# Altium schematic symbol library 74HC4067.SchLib: 1 symbol
Pins are listed as number, name and electrical type; pins without a type are passive.

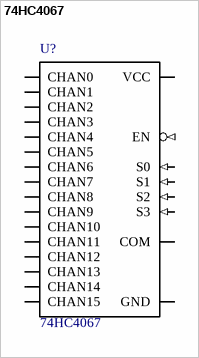
[diagram p0: symbol 74HC4067]

## 74HC4067
designator U?
/ Analog Switch/Analog Multiplexer Single 16:1 24-Pin SSOP T/R /; MF: Nexperia; Package: None; Price: None; SnapEDA_Link: https://www.snapeda.com/parts/74HC4067/Nexperia/view-part/?ref=snap; MP: 74HC4067; Availability: Not in stock; Check_prices: https://www.snapeda.com/parts/74HC4067/Nexperia/view-part/?ref=eda; Value: *
footprint *SOIC-24_74HC4067(Primary)
pins: P1 COM (io), P2 CHAN7 (io), P3 CHAN6 (io), P4 CHAN5 (io), P5 CHAN4 (io), P6 CHAN3 (io), P7 CHAN2 (io), P8 CHAN1 (io), P9 CHAN0 (io), P10 S0 (in), P11 S1 (in), P12 GND (io), P13 S3 (in), P14 S2 (in), P15 EN (in), P16 CHAN15 (io), P17 CHAN14 (io), P18 CHAN13 (io), P19 CHAN12 (io), P20 CHAN11 (io), P21 CHAN10 (io), P22 CHAN9 (io), P23 CHAN8 (io), P24 VCC (io)